# Altium footprint library v_4.PcbLib: 4 footprints
Each footprint in its own frame and in the unit in brackets; x right, y up, seen from the top. Pads: shape width x height; smd on the part's side, far side on the other; paste and mask are expansions set on the pad; w line width, h text height; cw(c..) or ccw(c..) is an arc to the next point about the centre after c.
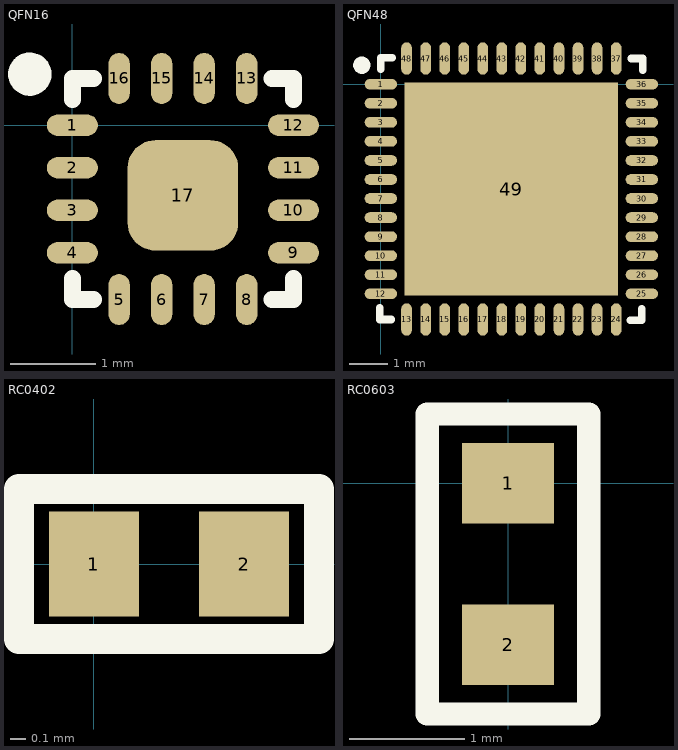
[diagram p0: the footprints below, top view; thin cyan lines are the x and y axes]

## QFN16 [mm]
pads (17):
  oval 0.6x0.25 smd mask+0.07: 1(0,0) 2(0,-0.5) 3(0,-1) 4(0,-1.5) 9(2.6,-1.5) 10(2.6,-1) 11(2.6,-0.5) 12(2.6,0)
  oval 0.25x0.6 smd mask+0.07: 5(0.55,-2.05) 6(1.05,-2.05) 7(1.55,-2.05) 8(2.05,-2.05) 13(2.05,0.55) 14(1.55,0.55) 15(1.05,0.55) 16(0.55,0.55)
  rrect50% 1.3x1.3 smd mask+0.07: 17(1.3,-0.825)
Top Overlay:
  circle w0.254: c-0.5,0.6 r0.127
  lines w0.2: 0,-1.8 0,-2.05 0.25,-2.05 ; 0,0.3 0,0.55 0.25,0.55 ; 2.35,-2.05 2.6,-2.05 2.6,-1.8 ; 2.35,0.55 2.6,0.55 2.6,0.3

## QFN48 [mm] "Корпус для ADS61B49"
height 3
pads (49):
  oval 0.85x0.28 smd mask+0.07: 1(0,0) 2(0,-0.5) 3(0,-1) 4(0,-1.5) 5(0,-2) 6(0,-2.5) 7(0,-3) 8(0,-3.5) 9(0,-4) 10(0,-4.5) 11(0,-5) 12(0,-5.5) 25(6.85,-5.5) 26(6.85,-5) 27(6.85,-4.5) 28(6.85,-4) 29(6.85,-3.5) 30(6.85,-3) 31(6.85,-2.5) 32(6.85,-2) 33(6.85,-1.5) 34(6.85,-1) 35(6.85,-0.5) 36(6.85,0)
  oval 0.28x0.85 smd mask+0.07: 13(0.675,-6.175) 14(1.175,-6.175) 15(1.675,-6.175) 16(2.175,-6.175) 17(2.675,-6.175) 18(3.175,-6.175) 19(3.675,-6.175) 20(4.175,-6.175) 21(4.675,-6.175) 22(5.175,-6.175) 23(5.675,-6.175) 24(6.175,-6.175) 37(6.175,0.675) 38(5.675,0.675) 39(5.175,0.675) 40(4.675,0.675) 41(4.175,0.675) 42(3.675,0.675) 43(3.175,0.675) 44(2.675,0.675) 45(2.175,0.675) 46(1.675,0.675) 47(1.175,0.675) 48(0.675,0.675)
  rect 5.6x5.6 smd mask+0.07: 49(3.425,-2.75)
Top Overlay:
  circle w0.254: c-0.5,0.5 r0.1
  lines w0.2: -0.025,-5.875 -0.025,-6.175 0.275,-6.175 ; 0,0.4 0,0.7 0.3,0.7 ; 6.55,-6.2 6.85,-6.2 6.85,-5.9 ; 6.575,0.675 6.875,0.675 6.875,0.375

## RC0402 [mm]
pads (2):
  rect 0.6x0.7 smd mask+0.05: 1(0,0) 2(1,0)
Top Overlay:
  lines w0.2: -0.5,-0.5 -0.5,0.5 1.5,0.5 1.5,-0.5 -0.5,-0.5

## RC0603 [mm]
height 0.508
pads (2):
  rect 0.8x0.7 smd: 1(0,0) 2(0,-1.4)
Top Overlay:
  lines w0.2: -0.7,-2 -0.7,0.6 0.7,0.6 0.7,-2 -0.7,-2